# Altium footprint library SOD.PcbLib: 22 footprints (part 1 of 2)
Each footprint in its own frame and in the unit in brackets; x right, y up, seen from the top. Pads: shape width x height; smd on the part's side, far side on the other; paste and mask are expansions set on the pad; w line width, h text height; cw(c..) or ccw(c..) is an arc to the next point about the centre after c.
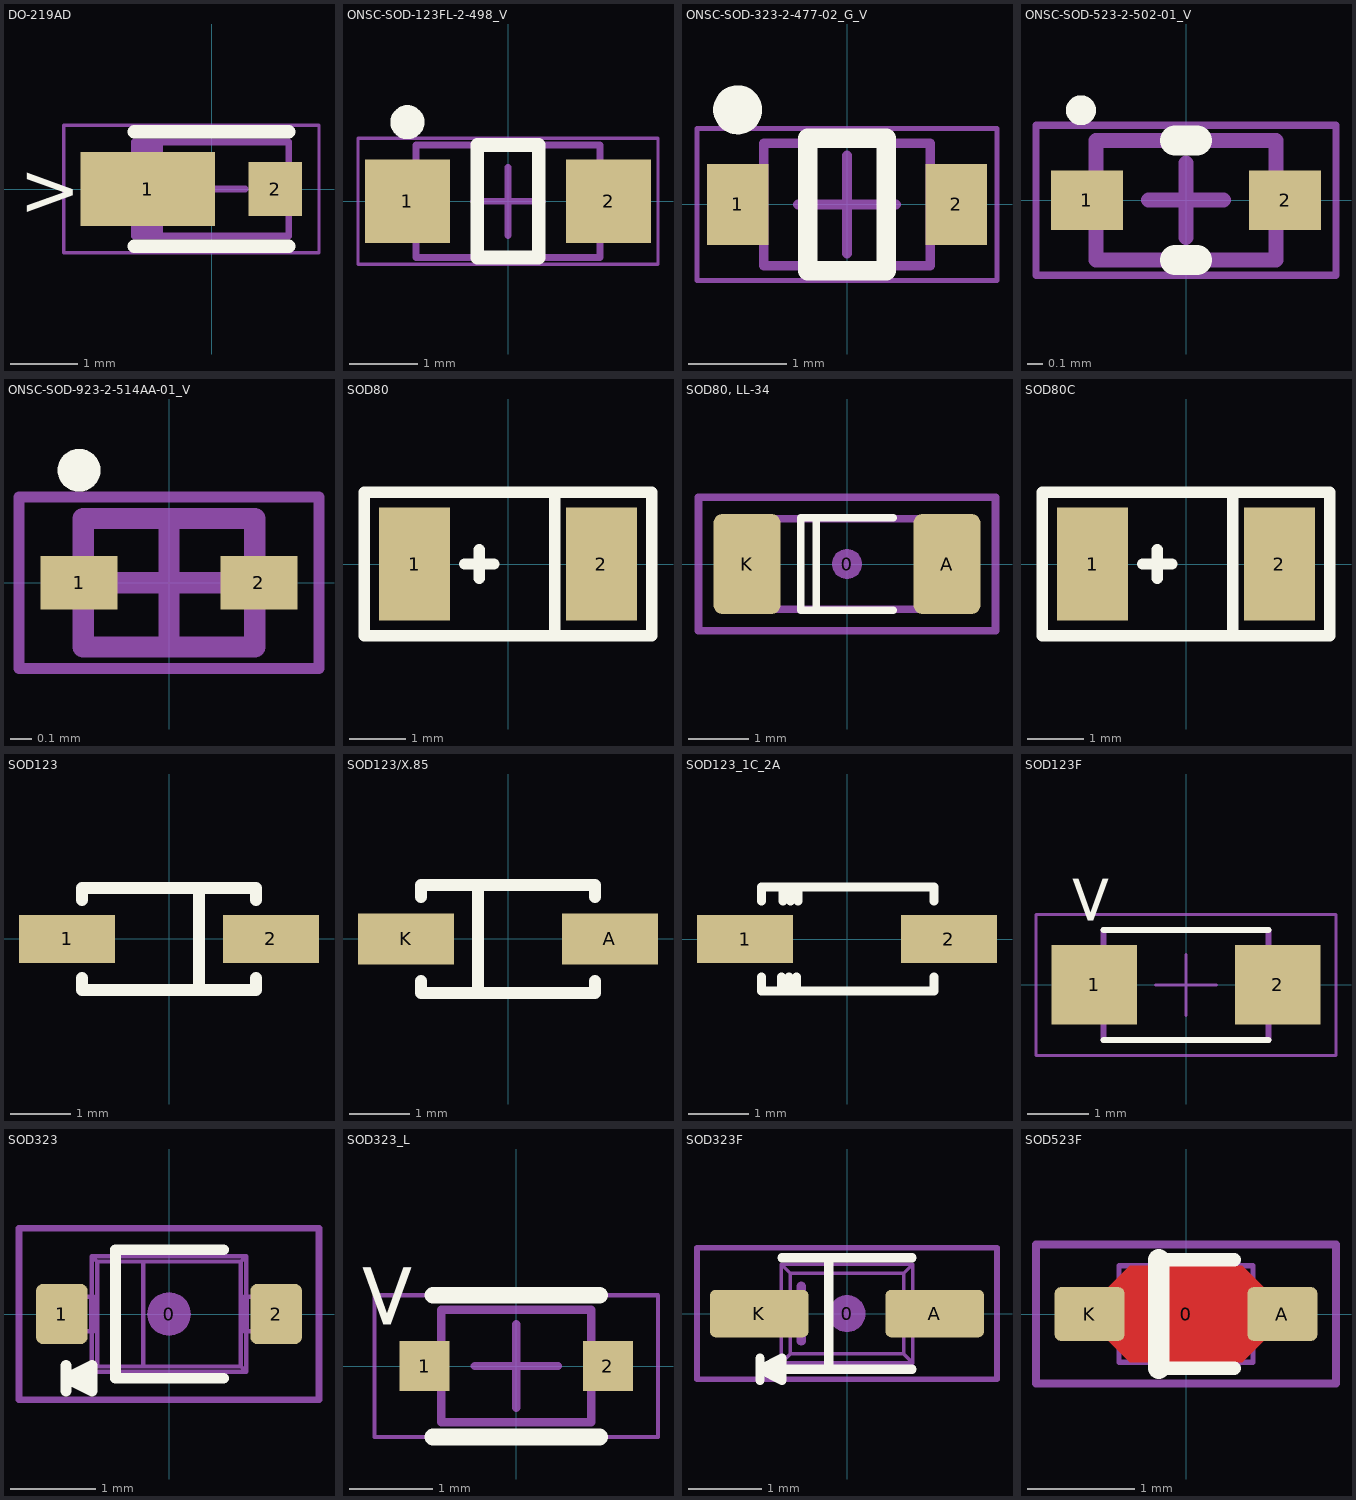
[diagram p0: the footprints below, top view; thin cyan lines are the x and y axes]

## DO-219AD [mm] "DIOM220X130X68N"
height 0.73
pads (2):
  rect 2x1.1 smd: 1(-0.948,0)
  rect 0.8x0.8 smd: 2(0.948,0)
Top Overlay:
  lines w0.2: -1.15,-0.85 1.15,-0.85 ; -1.15,0.85 1.15,0.85
  text ">" at -2.867,-0.4 h0.8
Mechanical 13:
  rectangle: -1.15,-0.725 -0.725,0.7
  lines w0.1: -1.15,-0.7 1.15,-0.7 1.15,0.7 -1.15,0.7 -1.15,-0.7
Mechanical 15:
  lines w0.05: -2.2,-0.95 -2.2,0.95 1.6,0.95 1.6,-0.95 -2.2,-0.95
  lines w0.1: -0.5,0 0.5,0 ; 0,-0.5 0,0.5
3D body "MSMP package.STEP": height 0.73, standoff 0.05, extent -1.25,-0.65 1.25,0.65

## ONSC-SOD-123FL-2-498_V [mm] "SOD, 2-Leads, Body 2.7x1.65mm"
height 0.98
pads (2):
  rect 1.25x1.22 smd: 1(-1.475,0) 2(1.475,0)
Top Overlay:
  circle w0.25: c-1.475,1.16 r0.125
  lines w0.2: -0.45,-0.825 -0.45,0.825 0.45,0.825 0.45,-0.825 -0.45,-0.825
Mechanical 13:
  lines w0.1: -1.35,-0.825 -1.35,0.825 1.35,0.825 1.35,-0.825 -1.35,-0.825
Mechanical 15:
  lines w0.05: -2.2,-0.925 2.2,-0.925 2.2,0.925 -2.2,0.925 -2.2,-0.925
  lines w0.1: -0.5,0 0.5,0 ; 0,-0.5 0,0.5
3D body: height 0.98, standoff 0, extent -1.35,-0.825 1.35,0.825

## ONSC-SOD-323-2-477-02_G_V [mm] "SOD, 2-Leads, Body 1.7x1.25mm"
height 1.062
pads (2):
  rect 0.63x0.83 smd: 1(-1.115,0) 2(1.115,0)
Top Overlay:
  circle w0.25: c-1.115,0.965 r0.125
  lines w0.2: -0.4,-0.675 -0.4,0.675 0.4,0.675 0.4,-0.675 -0.4,-0.675
Mechanical 13:
  lines w0.1: -0.85,-0.625 -0.85,0.625 0.85,0.625 0.85,-0.625 -0.85,-0.625
Mechanical 15:
  lines w0.05: -1.53,-0.775 -1.53,0.775 1.53,0.775 1.53,-0.775 -1.53,-0.775
  lines w0.1: -0.5,0 0.5,0 ; 0,-0.5 0,0.5
3D body: height 1.06, standoff 0, extent -0.85,-0.625 0.85,0.625

## ONSC-SOD-523-2-502-01_V [mm] "SOD, 2-Leads, Body 1.2x0.8mm"
height 0.7
pads (2):
  rect 0.48x0.4 smd: 1(-0.66,0) 2(0.66,0)
Top Overlay:
  circle w0.1: c-0.7,0.6 r0.05
  lines w0.2: -0.074,-0.4 0.074,-0.4 ; -0.074,0.4 0.074,0.4
Mechanical 13:
  lines w0.1: -0.6,-0.4 -0.6,0.4 0.6,0.4 0.6,-0.4 -0.6,-0.4
Mechanical 15:
  lines w0.05: -1,-0.5 1,-0.5 1,0.5 -1,0.5 -1,-0.5
  lines w0.1: -0.25,0 0.25,0 ; 0,-0.25 0,0.25
3D body: height 0.7, standoff 0, extent -0.6,-0.4 0.6,0.4

## ONSC-SOD-923-2-514AA-01_V [mm] "SOD, 2-Leads, Body 0.8x0.6mm"
height 0.43
pads (2):
  rect 0.36x0.25 smd: 1(-0.42,0) 2(0.42,0)
Top Overlay:
  circle w0.1: c-0.42,0.525 r0.05
Mechanical 13:
  lines w0.1: -0.4,-0.3 0.4,-0.3 0.4,0.3 -0.4,0.3 -0.4,-0.3
Mechanical 15:
  lines w0.05: -0.7,-0.4 0.7,-0.4 0.7,0.4 -0.7,0.4 -0.7,-0.4
  lines w0.1: -0.25,0 0.25,0 ; 0,-0.25 0,0.25
3D body: height 0.43, standoff 0, extent -0.4,-0.3 0.4,0.3

## SOD80 [mm]
height 1
pads (2):
  rect 1.25x2 smd: 1(-1.651,0) 2(1.651,0)
Top Overlay:
  lines w0.2: -0.762,0 -0.254,0 ; -0.508,-0.254 -0.508,0.254 ; 0.825,-1.27 0.825,1.27 ; -2.54,-1.27 2.54,-1.27 2.54,1.27 -2.54,1.27 -2.54,-1.27
3D body "SOD80.step": height 1.61, standoff 0.01, extent -1.844,-0.8 1.857,0.8

## SOD80, LL-34 [mm] "Diode, MiniMELF"
height 1.6
pads (3):
  round 0.5 on Mech15: 0(0,0)
  rrect25% 1.1x1.65 smd: A(1.65,0) K(-1.65,0)
Top Overlay:
  lines w0.127: -0.508,-0.762 -0.508,0.762 ; 0.762,-0.762 -0.762,-0.762 -0.762,0.762 0.762,0.762
Mechanical 13:
  lines w0.127: -1.8,-0.747 -1.8,0.747 1.8,0.747 1.8,-0.747 -1.8,-0.747
Mechanical 15:
  lines w0.127: -2.45,-1.1 -2.45,1.1 2.45,1.1 2.45,-1.1 -2.45,-1.1
3D body "SOD80.stp": height 1.47, standoff -0.01, extent -1.8,-0.747 1.8,0.747

## SOD80C [mm]
height 1
pads (2):
  rect 1.25x2 smd: 1(-1.651,0) 2(1.651,0)
Top Overlay:
  lines w0.2: -0.762,0 -0.254,0 ; -0.508,-0.254 -0.508,0.254 ; 0.825,-1.27 0.825,1.27 ; -2.54,-1.27 2.54,-1.27 2.54,1.27 -2.54,1.27 -2.54,-1.27
3D body "SOD80C-1.STEP": height 1.6, standoff 0, extent -1.846,-0.8 1.854,0.8

## SOD123 [mm] "SOD-123; 2 Leads; Body 2.7 x 1.6 mm, (LxW)"
height 1.35
pads (2):
  rect 1.6x0.8 smd: 1(-1.7,0) 2(1.7,0)
Top Overlay:
  lines w0.2: -1.45,-0.65 -1.45,-0.85 1.45,-0.85 1.45,-0.65 ; -1.45,0.65 -1.45,0.85 1.45,0.85 1.45,0.65 ; 0.5,-0.85 0.5,0.85

## SOD123/X.85 [mm] "SOD-123; 2 Leads; Body 2.7 x 1.6 mm, (LxW)"
height 1.35
pads (2):
  rect 1.6x0.85 smd: A(1.7,0) K(-1.7,0)
Top Overlay:
  lines w0.2: -1.45,-0.7 -1.45,-0.9 1.45,-0.9 1.45,-0.7 ; -1.45,0.7 -1.45,0.9 1.45,0.9 1.45,0.7 ; -0.5,-0.9 -0.5,0.9

## SOD123_1C_2A [mm] "SOD-123; 2 Leads; Body 2.7 x 1.6 mm, (LxW)"
height 1.35
pads (2):
  rect 1.6x0.8 smd: 1(-1.7,0) 2(1.7,0)
Top Overlay:
  lines w0.15: -1.422,-0.635 -1.422,-0.864 1.45,-0.864 ; -1.422,0.635 -1.422,0.864 1.45,0.864 ; -1.092,-0.864 -1.092,-0.635 ; -1.067,0.635 -1.067,0.864 ; -0.965,-0.864 -0.965,-0.635 ; -0.94,0.635 -0.94,0.864 ; -0.838,-0.864 -0.838,-0.635 ; -0.813,0.635 -0.813,0.864 ; 1.448,-0.864 1.448,-0.635 ; 1.448,0.635 1.448,0.864
3D body "SOD123.STEP": height 1.27, standoff 0, extent -1.85,-0.8 1.85,0.8

## SOD123F [mm]
height 4.83
pads (2):
  rect 1.4x1.3 smd: 1(-1.5,0) 2(1.5,0)
Top Overlay:
  lines w0.1: -1.35,-0.9 1.35,-0.9 ; -1.35,0.9 1.35,0.9
  text ">" at -1.9,1.85 h0.8
Mechanical 13:
  lines w0.1: -1.35,-0.9 -1.35,0.9 1.35,0.9 1.35,-0.9 -1.35,-0.9
Mechanical 15:
  lines w0.05: -0.5,0 0.5,0 ; 0,-0.5 0,0.5 ; -2.45,-1.15 -2.45,1.15 2.45,1.15 2.45,-1.15 -2.45,-1.15
3D body "SOD123FLAT_1P8X2P7_STM.step": height 1.15, standoff 0, extent -1.435,-0.902 1.435,0.902

## SOD323 [mm] "SOD-323; 2 Leads; Body 1.8 x 1.35 mm, (LxW)"
height 1.15
pads (3):
  round 0.508 on Mech15: 0(0,0)
  rrect25% 0.6x0.7 smd: 1(-1.25,0) 2(1.25,0)
Top Overlay:
  lines w0.127: -1.2,-0.9 -1.2,-0.6 ; -0.9,-0.75 -1.2,-0.75 ; 0.635,-0.75 -0.625,-0.75 -0.625,0.75 0.635,0.75 ; -1.2,-0.75 -0.9,-0.6 -0.9,-0.9 -1.2,-0.75
Mechanical 13:
  lines w0.05: -1.157,-0.2 -1.157,0.2 ; -1.11,-0.2 -1.11,0.2 ; -0.91,-0.2 -0.91,0.2 ; -0.9,-0.2 -0.9,-0.675 ; -0.9,0.2 -0.9,0.675 ; 0.9,-0.2 0.9,-0.675 ; 0.9,0.2 0.9,0.675 ; 0.91,-0.2 0.91,0.2 ; 1.11,-0.2 1.11,0.2 ; 1.157,-0.2 1.157,0.2 ; -0.9,-0.675 0.9,-0.675 ; -0.9,-0.675 -0.838,-0.613 ; -0.9,0.675 -0.838,0.613 ; -0.9,0.675 0.9,0.675 ; -0.838,-0.613 -0.3,-0.613 ; -0.838,-0.613 -0.838,0.613 ; -0.838,0.613 -0.3,0.613 ; -0.3,-0.613 0.838,-0.613 ; -0.3,-0.613 -0.3,0.613 ; -0.3,0.613 0.838,0.613 ; 0.838,-0.613 0.9,-0.675 ; 0.838,-0.613 0.838,0.613 ; 0.838,0.613 0.9,0.675 ; -1.3,-0.2 -0.879,-0.2 -0.879,0.2 -1.3,0.2 -1.3,-0.2 ; 0.879,-0.2 0.879,0.2 1.3,0.2 1.3,-0.2 0.879,-0.2
Mechanical 15:
  lines w0.076: -1.75,-1 1.75,-1 1.75,1 -1.75,1 -1.75,-1
3D body "SOD323.STEP": height 1.1, standoff 0, extent -1.3,-0.675 1.3,0.675

## SOD323_L [mm] "SODFL250X110-2N"
height 1.1
pads (2):
  rect 0.6x0.6 smd: 1(-1.1,0) 2(1.1,0)
Top Overlay:
  lines w0.2: -1,-0.85 1,-0.85 ; -1,0.85 1,0.85
  text ">" at -1.9,1.3 h0.8
Mechanical 13:
  lines w0.1: -0.9,-0.675 -0.9,0.675 0.9,0.675 0.9,-0.675 -0.9,-0.675
Mechanical 15:
  lines w0.05: -1.7,-0.85 -1.7,0.85 1.7,0.85 1.7,-0.85 -1.7,-0.85
  lines w0.1: -0.5,0 0.5,0 ; 0,-0.5 0,0.5
3D body "User Library-SOD-323.x_b": height 1.1, standoff 0, extent -1.3,-0.675 1.3,0.675

## SOD323F [mm] "SOD-323; 2 Leads; Body 2.7 x 1.6 mm, (LxW)"
height 1.35
pads (3):
  round 0.508 on Mech15: 0(0,0)
  rrect25% 1.35x0.65 smd: A(1.2,0) K(-1.2,0)
Top Overlay:
  lines w0.127: -1.189,-0.912 -1.189,-0.612 ; -0.889,0.762 0.889,0.762 ; -0.25,-0.762 -0.25,0.762 ; 0.889,-0.762 -0.889,-0.762 -1.189,-0.762 ; -1.189,-0.762 -0.889,-0.912 -0.889,-0.612 -1.189,-0.762
Mechanical 13:
  lines w0.05: -0.9,-0.2 -1.25,-0.2 -1.25,0.2 -0.9,0.2 ; 0.9,-0.2 1.25,-0.2 1.25,0.2 0.9,0.2 ; -0.9,-0.675 -0.776,-0.551 ; -0.9,-0.675 -0.9,0.675 ; -0.9,-0.675 0.9,-0.675 ; -0.9,0.675 -0.776,0.551 ; -0.9,0.675 0.9,0.675 ; -0.776,-0.551 -0.776,0.551 ; -0.776,-0.551 0.776,-0.551 ; -0.776,0.551 0.776,0.551 ; 0.776,-0.551 0.776,0.551 ; 0.776,-0.551 0.9,-0.675 ; 0.776,0.551 0.9,0.675 ; 0.9,-0.675 0.9,0.675
  lines w0.127: -0.625,-0.375 -0.625,0.375
Mechanical 15:
  lines w0.076: -2.05,-0.9 2.05,-0.9 2.05,0.9 -2.05,0.9 -2.05,-0.9
3D body "SOD323F.STEP": height 1, standoff 0, extent -1.25,-0.675 1.25,0.675

## SOD523F [mm] "SOD-523F; 2 Leads; Body 1.3 x 0.9 mm, (LxW)"
height 0.7
pads (3):
  round 0.508 on Mech15: 0(0,0)
  rrect20% 0.65x0.5 smd: A(0.9,0) K(-0.9,0)
Top Layer:
  pour cut-out: -0.725,-0.25 -0.725,0.25 -0.525,0.45 0.525,0.45 0.725,0.25 0.725,-0.25 0.525,-0.45 -0.525,-0.45
Top Overlay:
  lines w0.127: -0.254,-0.508 0.45,-0.508 ; -0.254,0.508 0.45,0.508
  lines w0.2: -0.254,-0.508 -0.254,0.508
  text "." at -0.9,-0.625 h0.05
Mechanical 13:
  lines w0.05: -0.625,-0.175 -0.85,-0.175 -0.85,0.175 -0.625,0.175 ; -0.625,-0.175 -0.625,-0.45 0.625,-0.45 0.625,-0.175 ; -0.625,-0.175 -0.625,0.175 ; -0.625,0.175 -0.625,0.45 0.625,0.45 0.625,0.175 ; 0.625,-0.175 0.85,-0.175 0.85,0.175 0.625,0.175 ; 0.625,-0.175 0.625,0.175
  lines w0.127: -0.425,-0.275 -0.425,0.275
Mechanical 15:
  lines w0.076: -1.4,-0.65 -1.4,0.65 1.4,0.65 1.4,-0.65 -1.4,-0.65
3D body "SOD-523F.STEP": height 0.7, standoff 0, extent -0.85,-0.45 0.85,0.45